# EAGLE library part ADUM6280 (library 16A-01)
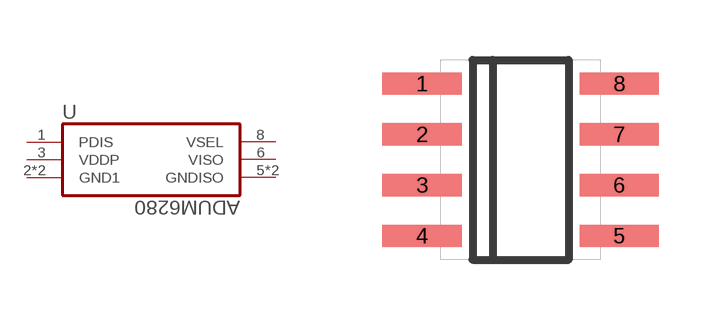
[diagram p4: symbol with the pads of SOIC127P600X175-8N; footprint SOIC127P600X175-8N]

Designator prefix U

## ADUM6280  [SOIC127P600X175-8N]
1  PDIS  pwr
2  GND1  pas
3  VDDP
4  GND1  pas
5  GNDISO  pas
6  VISO  pwr
7  GNDISO  pas
8  VSEL  pwr

## Footprint SOIC127P600X175-8N (pad centres in mm)
smd 1.981 x 0.559: 1 -2.464,1.905; 2 -2.464,0.635; 3 -2.464,-0.635; 4 -2.464,-1.905; 5 2.464,-1.905; 6 2.464,-0.635; 7 2.464,0.635; 8 2.464,1.905